# Altium schematic symbol library eByte.SchLib: 1 symbol
Pins are listed as number, name and electrical type; pins without a type are passive.

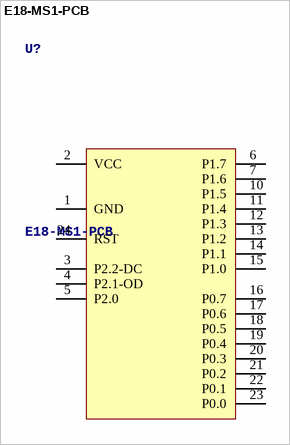
[diagram p0: symbol E18-MS1-PCB]

## E18-MS1-PCB
designator U?
footprint MS1-E18-PCB (MS1-E18-PCB module)
pins: 1 GND (power), 2 VCC (power), 3 P2.2-DC, 4 P2.1-OD, 5 P2.0, 6 P1.7, 7 P1.6, 10 P1.5, 11 P1.4, 12 P1.3, 13 P1.2, 14 P1.1, 15 P1.0, 16 P0.7, 17 P0.6, 18 P0.5, 19 P0.4, 20 P0.3, 21 P0.2, 22 P0.1, 23 P0.0, 24 RST